# Altium schematic symbol library Microver.SchLib: 988 symbols (part 16 of 17)
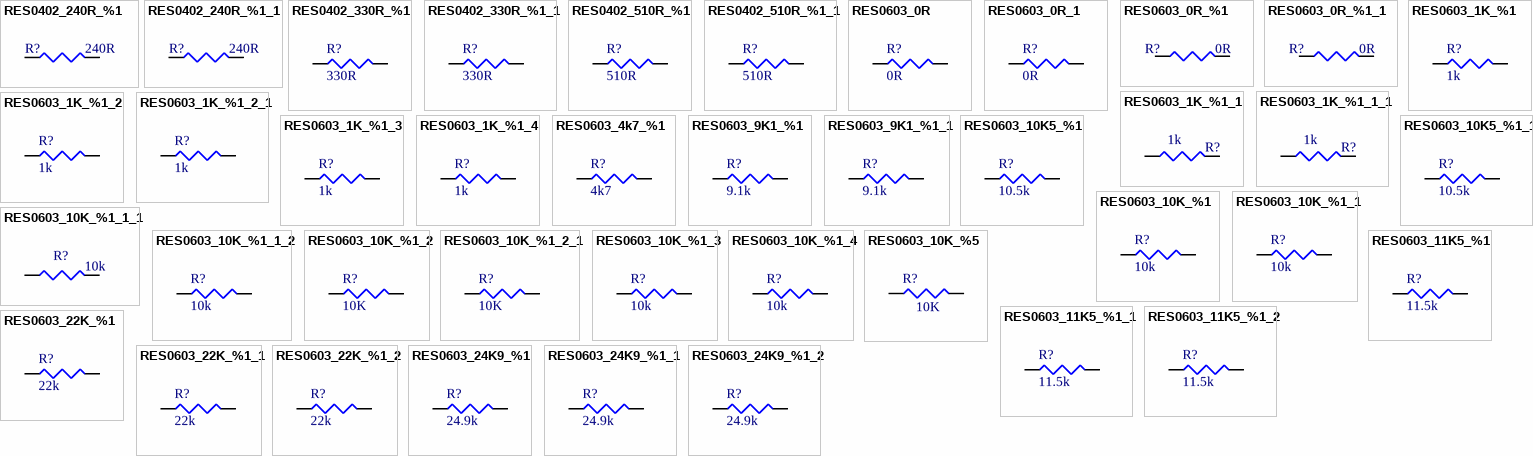
[diagram p44: symbols RES0402_240R_%1 to RES0603_24K9_%1_2]

## RES0603_10K_%1_3
designator R?, comment value 10k  (hidden comment: RES 10K OHM 1% 1/10W 0603)
10 kOhms ±1% 0.1W, 1/10W Chip Resistor 0603 (1608 Metric) Moisture Resistant Thick Film; Manufacturer Part Number: RC0603FR-0710KL; Order Code: Digi: 311-10.0KHRTR-ND; Sirius Stock Code: *; LCSC Part Number: C98220; LCSC Manufacturer Part Number: RC0603FR-0710KL
footprint SMR0603
pins: 1, 2

## RES0603_10K_%1_4
designator R?, comment value 10k  (hidden comment: RES 10K OHM 1% 1/10W 0603)
10 kOhms ±1% 0.1W, 1/10W Chip Resistor 0603 (1608 Metric) Moisture Resistant Thick Film; Manufacturer Part Number: RC0603FR-0710KL; Order Code: Digi: 311-10.0KHRTR-ND; Sirius Stock Code: *; LCSC Part Number: C98220; LCSC Manufacturer Part Number: RC0603FR-0710KL
footprint SMR0603
pins: 1, 2

## RES0603_10K_%5
designator R?, comment value 10K  (hidden comment: RES 10K OHM 5% 1/10W 0603)
10 kOhms ±5% 0.1W, 1/10W Chip Resistor 0603 (1608 Metric) Automotive AEC-Q200 Thick Film; Manufacturer Part Number: RMCF0603JT10K0; Sirius Stock Code: S182-00010KDJD
footprint RES0603 (RESISTOR 0603)
pins: 1, 2

## RES0603_11K5_%1
designator R?, comment value 11.5k  (hidden comment: RES 11.5K OHM 1% 1/10W 0603)
±1% 11.5kΩ 0603 Chip Resistor - Surface Mount ROHS; Manufacturer Part Number: SCR0603F11K5; Order Code: LCSC: C3016130; Sirius Stock Code: *; LCSC Part Number: C3016130; LCSC Manufacturer Part Number: SCR0603F11K5
footprint SMR0603
pins: 1, 2

## RES0603_11K5_%1_1
designator R?, comment value 11.5k  (hidden comment: RES 11.5K OHM 1% 1/10W 0603)
±1% 11.5kΩ 0603 Chip Resistor - Surface Mount ROHS; Manufacturer Part Number: SCR0603F11K5; Order Code: LCSC: C3016130; Sirius Stock Code: *; LCSC Part Number: C3016130; LCSC Manufacturer Part Number: SCR0603F11K5
footprint SMR0603
pins: 1, 2

## RES0603_11K5_%1_2
designator R?, comment value 11.5k  (hidden comment: RES 11.5K OHM 1% 1/10W 0603)
±1% 11.5kΩ 0603 Chip Resistor - Surface Mount ROHS; Manufacturer Part Number: SCR0603F11K5; Order Code: LCSC: C3016130; Sirius Stock Code: *; LCSC Part Number: C3016130; LCSC Manufacturer Part Number: SCR0603F11K5
footprint SMR0603
pins: 1, 2

## RES0603_22K_%1
designator R?, comment value 22k  (hidden comment: RES 22K OHM 1% 1/10W 0603)
22 kOhms ±1% 0.1W, 1/10W Chip Resistor 0603 (1608 Metric) Moisture Resistant Thick Film; Manufacturer Part Number: RC0603FR-0722KL; Order Code: Digi: 311-22.0KHRTR-ND; Sirius Stock Code: *; LCSC Part Number: C114065; LCSC Manufacturer Part Number: RC0603FR-0722KL
footprint SMR0603
pins: 1, 2

## RES0603_22K_%1_1
designator R?, comment value 22k  (hidden comment: RES 22K OHM 1% 1/10W 0603)
22 kOhms ±1% 0.1W, 1/10W Chip Resistor 0603 (1608 Metric) Moisture Resistant Thick Film; Manufacturer Part Number: RC0603FR-0722KL; Order Code: Digi: 311-22.0KHRTR-ND; Sirius Stock Code: *; LCSC Part Number: C114065; LCSC Manufacturer Part Number: RC0603FR-0722KL
footprint SMR0603
pins: 1, 2

## RES0603_22K_%1_2
designator R?, comment value 22k  (hidden comment: RES 22K OHM 1% 1/10W 0603)
22 kOhms ±1% 0.1W, 1/10W Chip Resistor 0603 (1608 Metric) Moisture Resistant Thick Film; Manufacturer Part Number: RC0603FR-0722KL; Order Code: Digi: 311-22.0KHRTR-ND; Sirius Stock Code: *; LCSC Part Number: C114065; LCSC Manufacturer Part Number: RC0603FR-0722KL
footprint SMR0603
pins: 1, 2

## RES0603_24K9_%1
designator R?, comment value 24.9k  (hidden comment: RES 24.9K OHM 1% 1/10W 0603)
24.9 kOhms ±1% 0.1W, 1/10W Chip Resistor 0603 (1608 Metric) Moisture Resistant Thick Film; Manufacturer Part Number: RC0603FR-0724K9L; Order Code: Digi: 311-24.9KHRTR-ND; Sirius Stock Code: *; LCSC Part Number: C137761; LCSC Manufacturer Part Number: RC0603FR-0724K9L
footprint SMR0603
pins: 1, 2

## RES0603_24K9_%1_1
designator R?, comment value 24.9k  (hidden comment: RES 24.9K OHM 1% 1/10W 0603)
24.9 kOhms ±1% 0.1W, 1/10W Chip Resistor 0603 (1608 Metric) Moisture Resistant Thick Film; Manufacturer Part Number: RC0603FR-0724K9L; Order Code: Digi: 311-24.9KHRTR-ND; Sirius Stock Code: *; LCSC Part Number: C137761; LCSC Manufacturer Part Number: RC0603FR-0724K9L
footprint SMR0603
pins: 1, 2

## RES0603_24K9_%1_2
designator R?, comment value 24.9k  (hidden comment: RES 24.9K OHM 1% 1/10W 0603)
24.9 kOhms ±1% 0.1W, 1/10W Chip Resistor 0603 (1608 Metric) Moisture Resistant Thick Film; Manufacturer Part Number: RC0603FR-0724K9L; Order Code: Digi: 311-24.9KHRTR-ND; Sirius Stock Code: *; LCSC Part Number: C137761; LCSC Manufacturer Part Number: RC0603FR-0724K9L
footprint SMR0603
pins: 1, 2

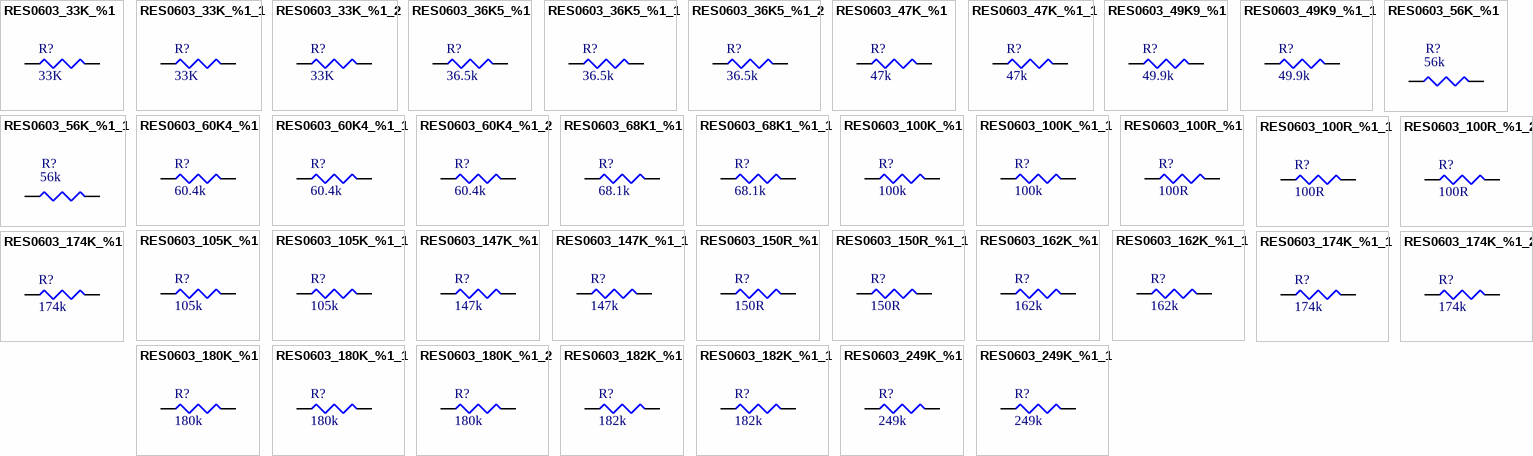
[diagram p25: symbols RES0603_33K_%1 to RES0603_249K_%1_1]

## RES0603_33K_%1
designator R?, comment value 33K  (hidden comment: RES 33K OHM 1% 1/10W 0603)
33 kOhms ±1% 0.1W, 1/10W Chip Resistor 0603 (1608 Metric) Moisture Resistant Thick Film; Manufacturer Part Number: RC0603FR-0733KL; Order Code: Digi: 311-33.0KHRTR-ND; Sirius Stock Code: *; LCSC Manufacturer Part Number: RC0603FR-0733KL; LCSC Part Number: C126359
footprint SMR0603
pins: 1, 2

## RES0603_33K_%1_1
designator R?, comment value 33K  (hidden comment: RES 33K OHM 1% 1/10W 0603)
33 kOhms ±1% 0.1W, 1/10W Chip Resistor 0603 (1608 Metric) Moisture Resistant Thick Film; Manufacturer Part Number: RC0603FR-0733KL; Order Code: Digi: 311-33.0KHRTR-ND; Sirius Stock Code: *; LCSC Manufacturer Part Number: RC0603FR-0733KL; LCSC Part Number: C126359
footprint SMR0603
pins: 1, 2

## RES0603_33K_%1_2
designator R?, comment value 33K  (hidden comment: RES 33K OHM 1% 1/10W 0603)
33 kOhms ±1% 0.1W, 1/10W Chip Resistor 0603 (1608 Metric) Moisture Resistant Thick Film; Manufacturer Part Number: RC0603FR-0733KL; Order Code: Digi: 311-33.0KHRTR-ND; Sirius Stock Code: *; LCSC Manufacturer Part Number: RC0603FR-0733KL; LCSC Part Number: C126359
footprint SMR0603
pins: 1, 2

## RES0603_36K5_%1
designator R?, comment value 36.5k  (hidden comment: RES 36.5K OHM 1% 1/10W 0603)
100mW 36.5kΩ Thick Film Resistors ±1% 0603 Chip Resistor - Surface Mount ROHS; Manufacturer Part Number: 0603WAF3652T5E; Order Code: LCSC: C23029; Sirius Stock Code: *; LCSC Part Number: C23029; LCSC Manufacturer Part Number: 0603WAF3652T5E
footprint SMR0603
pins: 1, 2

## RES0603_36K5_%1_1
designator R?, comment value 36.5k  (hidden comment: RES 36.5K OHM 1% 1/10W 0603)
100mW 36.5kΩ Thick Film Resistors ±1% 0603 Chip Resistor - Surface Mount ROHS; Manufacturer Part Number: 0603WAF3652T5E; Order Code: LCSC: C23029; Sirius Stock Code: *; LCSC Part Number: C23029; LCSC Manufacturer Part Number: 0603WAF3652T5E
footprint SMR0603
pins: 1, 2

## RES0603_36K5_%1_2
designator R?, comment value 36.5k  (hidden comment: RES 36.5K OHM 1% 1/10W 0603)
100mW 36.5kΩ Thick Film Resistors ±1% 0603 Chip Resistor - Surface Mount ROHS; Manufacturer Part Number: 0603WAF3652T5E; Order Code: LCSC: C23029; Sirius Stock Code: *; LCSC Part Number: C23029; LCSC Manufacturer Part Number: 0603WAF3652T5E
footprint SMR0603
pins: 1, 2

## RES0603_47K_%1
designator R?, comment value 47k  (hidden comment: RES SMD 47K OHM 1% 1/10W 0603)
47 kOhms ±1% 0.1W, 1/10W Chip Resistor 0603 (1608 Metric) Thin Film; Manufacturer Part Number: RT0603FRE0747KL; Order Code: Digi: YAG3355TR-ND; Sirius Stock Code: *; LCSC Manufacturer Part Number: RT0603FRE0747KL; LCSC Part Number: C375512
footprint RES0603 (RESISTOR 0603)
pins: 1, 2

## RES0603_47K_%1_1
designator R?, comment value 47k  (hidden comment: RES SMD 47K OHM 1% 1/10W 0603)
47 kOhms ±1% 0.1W, 1/10W Chip Resistor 0603 (1608 Metric) Thin Film; Manufacturer Part Number: RT0603FRE0747KL; Order Code: Digi: YAG3355TR-ND; Sirius Stock Code: *; LCSC Manufacturer Part Number: RT0603FRE0747KL; LCSC Part Number: C375512
footprint RES0603 (RESISTOR 0603)
pins: 1, 2

## RES0603_49K9_%1
designator R?, comment value 49.9k  (hidden comment: RES 49K9 OHM 1% 1/10W 0603)
49.9kΩ 100mW Thick Film Resistors ±1% 0603 Chip Resistor - Surface Mount ROHS; Manufacturer Part Number: 0603WAF4992T5E; Order Code: LCSC: C23184; Sirius Stock Code: *; LCSC Part Number: C23184; LCSC Manufacturer Part Number: 0603WAF4992T5E
footprint SMR0603
pins: 1, 2

## RES0603_49K9_%1_1
designator R?, comment value 49.9k  (hidden comment: RES 49K9 OHM 1% 1/10W 0603)
49.9kΩ 100mW Thick Film Resistors ±1% 0603 Chip Resistor - Surface Mount ROHS; Manufacturer Part Number: 0603WAF4992T5E; Order Code: LCSC: C23184; Sirius Stock Code: *; LCSC Part Number: C23184; LCSC Manufacturer Part Number: 0603WAF4992T5E
footprint SMR0603
pins: 1, 2

## RES0603_56K_%1
designator R?, comment value 56k  (hidden comment: RES 56K OHM 1% 1/10W 0603)
56 kOhms ±1% 0.1W, 1/10W Chip Resistor 0603 (1608 Metric) Moisture Resistant Thick Film; Manufacturer Part Number: RC0603FR-0756KL; Order Code: Digi: 311-56KHRTR-ND; Sirius Stock Code: *; LCSC Part Number: C114630; LCSC Manufacturer Part Number: RC0603FR-0756KL
footprint SMR0603
pins: 1, 2

## RES0603_56K_%1_1
designator R?, comment value 56k  (hidden comment: RES 56K OHM 1% 1/10W 0603)
56 kOhms ±1% 0.1W, 1/10W Chip Resistor 0603 (1608 Metric) Moisture Resistant Thick Film; Manufacturer Part Number: RC0603FR-0756KL; Order Code: Digi: 311-56KHRTR-ND; Sirius Stock Code: *; LCSC Part Number: C114630; LCSC Manufacturer Part Number: RC0603FR-0756KL
footprint SMR0603
pins: 1, 2

## RES0603_60K4_%1
designator R?, comment value 60.4k  (hidden comment: RES 60.4K OHM 1% 1/10W 0603)
60.4 kOhms ±1% 0.1W, 1/10W Chip Resistor 0603 (1608 Metric) Moisture Resistant Thick Film; Manufacturer Part Number: RC0603FR-0760K4L; Order Code: Digi: 311-60.4KHRTR-ND; Sirius Stock Code: *; LCSC Part Number: C165742; LCSC Manufacturer Part Number: RC0603FR-0760K4L
footprint SMR0603
pins: 1, 2

## RES0603_60K4_%1_1
designator R?, comment value 60.4k  (hidden comment: RES 60.4K OHM 1% 1/10W 0603)
60.4 kOhms ±1% 0.1W, 1/10W Chip Resistor 0603 (1608 Metric) Moisture Resistant Thick Film; Manufacturer Part Number: RC0603FR-0760K4L; Order Code: Digi: 311-60.4KHRTR-ND; Sirius Stock Code: *; LCSC Part Number: C165742; LCSC Manufacturer Part Number: RC0603FR-0760K4L
footprint SMR0603
pins: 1, 2

## RES0603_60K4_%1_2
designator R?, comment value 60.4k  (hidden comment: RES 60.4K OHM 1% 1/10W 0603)
60.4 kOhms ±1% 0.1W, 1/10W Chip Resistor 0603 (1608 Metric) Moisture Resistant Thick Film; Manufacturer Part Number: RC0603FR-0760K4L; Order Code: Digi: 311-60.4KHRTR-ND; Sirius Stock Code: *; LCSC Part Number: C165742; LCSC Manufacturer Part Number: RC0603FR-0760K4L
footprint SMR0603
pins: 1, 2

## RES0603_68K1_%1
designator R?, comment value 68.1k  (hidden comment: RES 68.1K OHM 1% 1/10W 0603)
68.1kΩ 100mW Thick Film Resistors ±1% 0603 Chip Resistor - Surface Mount ROHS; Manufacturer Part Number: 0603WAF6812T5E; Order Code: LCSC: C25976; Sirius Stock Code: *; LCSC Part Number: C25976; LCSC Manufacturer Part Number: 0603WAF6812T5E
footprint SMR0603
pins: 1, 2

## RES0603_68K1_%1_1
designator R?, comment value 68.1k  (hidden comment: RES 68.1K OHM 1% 1/10W 0603)
68.1kΩ 100mW Thick Film Resistors ±1% 0603 Chip Resistor - Surface Mount ROHS; Manufacturer Part Number: 0603WAF6812T5E; Order Code: LCSC: C25976; Sirius Stock Code: *; LCSC Part Number: C25976; LCSC Manufacturer Part Number: 0603WAF6812T5E
footprint SMR0603
pins: 1, 2

## RES0603_100K_%1
designator R?, comment value 100k  (hidden comment: RES 180K OHM 1% 1/10W 0603)
100 kOhms ±1% 0.1W, 1/10W Chip Resistor 0603 (1608 Metric) Moisture Resistant Thick Film; Manufacturer Part Number: RC0603FR-07100KL; Order Code: DIGI : 311-100KHRTR-ND; LCSC Manufacturer Part Number: RC0603FR-07100KL; LCSC Part Number: C123419
footprint SMR0603
pins: 1, 2

## RES0603_100K_%1_1
designator R?, comment value 100k  (hidden comment: RES 180K OHM 1% 1/10W 0603)
100 kOhms ±1% 0.1W, 1/10W Chip Resistor 0603 (1608 Metric) Moisture Resistant Thick Film; Manufacturer Part Number: RC0603FR-07100KL; Order Code: DIGI : 311-100KHRTR-ND; LCSC Manufacturer Part Number: RC0603FR-07100KL; LCSC Part Number: C123419
footprint SMR0603
pins: 1, 2

## RES0603_100R_%1
designator R?, comment value 100R  (hidden comment: RES 100 OHM 1% 1/10W 0603)
100 Ohms ±1% 0.1W, 1/10W Chip Resistor 0603 (1608 Metric) Moisture Resistant Thick Film; Manufacturer Part Number: RC0603FR-07100RL; Order Code: Digi: 311-100HRTR-ND; Sirius Stock Code: *; LCSC Part Number: C105588; LCSC Manufacturer Part Number: RC0603FR-07100RL
footprint SMR0603
pins: 1, 2

## RES0603_100R_%1_1
designator R?, comment value 100R  (hidden comment: RES 100 OHM 1% 1/10W 0603)
100 Ohms ±1% 0.1W, 1/10W Chip Resistor 0603 (1608 Metric) Moisture Resistant Thick Film; Manufacturer Part Number: RC0603FR-07100RL; Order Code: Digi: 311-100HRTR-ND; Sirius Stock Code: *; LCSC Part Number: C105588; LCSC Manufacturer Part Number: RC0603FR-07100RL
footprint SMR0603
pins: 1, 2

## RES0603_100R_%1_2
designator R?, comment value 100R  (hidden comment: RES 100 OHM 1% 1/10W 0603)
100 Ohms ±1% 0.1W, 1/10W Chip Resistor 0603 (1608 Metric) Moisture Resistant Thick Film; Manufacturer Part Number: RC0603FR-07100RL; Order Code: Digi: 311-100HRTR-ND; Sirius Stock Code: *; LCSC Part Number: C105588; LCSC Manufacturer Part Number: RC0603FR-07100RL
footprint SMR0603
pins: 1, 2

## RES0603_105K_%1
designator R?, comment value 105k  (hidden comment: RES 105K OHM 1% 1/10W 0603)
100mW Thick Film Resistors ±1% 105kΩ 0603 Chip Resistor - Surface Mount ROHS; Manufacturer Part Number: FRC0603F1053TS; Order Code: LCSC: C2933128; Sirius Stock Code: *; LCSC Part Number: C2933128; LCSC Manufacturer Part Number: FRC0603F1053TS
footprint SMR0603
pins: 1, 2

## RES0603_105K_%1_1
designator R?, comment value 105k  (hidden comment: RES 105K OHM 1% 1/10W 0603)
100mW Thick Film Resistors ±1% 105kΩ 0603 Chip Resistor - Surface Mount ROHS; Manufacturer Part Number: FRC0603F1053TS; Order Code: LCSC: C2933128; Sirius Stock Code: *; LCSC Part Number: C2933128; LCSC Manufacturer Part Number: FRC0603F1053TS
footprint SMR0603
pins: 1, 2

## RES0603_147K_%1
designator R?, comment value 147k  (hidden comment: RES 147K OHM 1% 1/10W 0603)
147kΩ 100mW Thick Film Resistors ±1% 0603 Chip Resistor - Surface Mount ROHS; Manufacturer Part Number: FRC0603F1473TS; Order Code: LCSC: C2998060; Sirius Stock Code: *; LCSC Part Number: C2998060; LCSC Manufacturer Part Number: FRC0603F1473TS
footprint SMR0603
pins: 1, 2

## RES0603_147K_%1_1
designator R?, comment value 147k  (hidden comment: RES 147K OHM 1% 1/10W 0603)
147kΩ 100mW Thick Film Resistors ±1% 0603 Chip Resistor - Surface Mount ROHS; Manufacturer Part Number: FRC0603F1473TS; Order Code: LCSC: C2998060; Sirius Stock Code: *; LCSC Part Number: C2998060; LCSC Manufacturer Part Number: FRC0603F1473TS
footprint SMR0603
pins: 1, 2

## RES0603_150R_%1
designator R?, comment value 150R  (hidden comment: RES 150 OHM 1% 1/10W 0603)
150 Ohms ±1% 0.1W, 1/10W Chip Resistor 0603 (1608 Metric) Moisture Resistant Thick Film; Manufacturer Part Number: RC0603FR-07150RL; Order Code: Digi: 311-150HRTR-ND; Sirius Stock Code: *; LCSC Part Number: C114608; LCSC Manufacturer Part Number: RC0603FR-07150RL
footprint SMR0603
pins: 1, 2

## RES0603_150R_%1_1
designator R?, comment value 150R  (hidden comment: RES 150 OHM 1% 1/10W 0603)
150 Ohms ±1% 0.1W, 1/10W Chip Resistor 0603 (1608 Metric) Moisture Resistant Thick Film; Manufacturer Part Number: RC0603FR-07150RL; Order Code: Digi: 311-150HRTR-ND; Sirius Stock Code: *; LCSC Part Number: C114608; LCSC Manufacturer Part Number: RC0603FR-07150RL
footprint SMR0603
pins: 1, 2

## RES0603_162K_%1
designator R?, comment value 162k  (hidden comment: RES 820K OHM 1% 1/10W 0603)
820 kOhms ±1% 0.1W, 1/10W Chip Resistor 0603 (1608 Metric) Moisture Resistant Thick Film; Manufacturer Part Number: FRC0603F1623TS; Order Code: LCSC: C2998114; Sirius Stock Code: *; LCSC Part Number: C2998114; LCSC Manufacturer Part Number: FRC0603F1623TS
footprint SMR0603
pins: 1, 2

## RES0603_162K_%1_1
designator R?, comment value 162k  (hidden comment: RES 820K OHM 1% 1/10W 0603)
820 kOhms ±1% 0.1W, 1/10W Chip Resistor 0603 (1608 Metric) Moisture Resistant Thick Film; Manufacturer Part Number: FRC0603F1623TS; Order Code: LCSC: C2998114; Sirius Stock Code: *; LCSC Part Number: C2998114; LCSC Manufacturer Part Number: FRC0603F1623TS
footprint SMR0603
pins: 1, 2

## RES0603_174K_%1
designator R?, comment value 174k  (hidden comment: RES 174K OHM 1% 1/10W 0603)
100mW Thick Film Resistors ±1% 174kΩ 0603 Chip Resistor - Surface Mount ROHS; Manufacturer Part Number: FRC0603F1743TS; Order Code: LCSC: C2933159; Sirius Stock Code: *; LCSC Part Number: C2933159; LCSC Manufacturer Part Number: FRC0603F1743TS
footprint SMR0603
pins: 1, 2

## RES0603_174K_%1_1
designator R?, comment value 174k  (hidden comment: RES 174K OHM 1% 1/10W 0603)
100mW Thick Film Resistors ±1% 174kΩ 0603 Chip Resistor - Surface Mount ROHS; Manufacturer Part Number: FRC0603F1743TS; Order Code: LCSC: C2933159; Sirius Stock Code: *; LCSC Part Number: C2933159; LCSC Manufacturer Part Number: FRC0603F1743TS
footprint SMR0603
pins: 1, 2

## RES0603_174K_%1_2
designator R?, comment value 174k  (hidden comment: RES 174K OHM 1% 1/10W 0603)
100mW Thick Film Resistors ±1% 174kΩ 0603 Chip Resistor - Surface Mount ROHS; Manufacturer Part Number: FRC0603F1743TS; Order Code: LCSC: C2933159; Sirius Stock Code: *; LCSC Part Number: C2933159; LCSC Manufacturer Part Number: FRC0603F1743TS
footprint SMR0603
pins: 1, 2

## RES0603_180K_%1
designator R?, comment value 180k  (hidden comment: RES 180K OHM 1% 1/10W 0603)
180 kOhms ±1% 0.1W, 1/10W Chip Resistor 0603 (1608 Metric) Moisture Resistant Thick Film; Manufacturer Part Number: RC0603FR-07180KL; Order Code: DIGI : 311-180KHRTR-ND; LCSC Manufacturer Part Number: RC0603FR-07180KL; LCSC Part Number: C123419
footprint SMR0603
pins: 1, 2

## RES0603_180K_%1_1
designator R?, comment value 180k  (hidden comment: RES 180K OHM 1% 1/10W 0603)
180 kOhms ±1% 0.1W, 1/10W Chip Resistor 0603 (1608 Metric) Moisture Resistant Thick Film; Manufacturer Part Number: RC0603FR-07180KL; Order Code: DIGI : 311-180KHRTR-ND; LCSC Manufacturer Part Number: RC0603FR-07180KL; LCSC Part Number: C123419
footprint SMR0603
pins: 1, 2

## RES0603_180K_%1_2
designator R?, comment value 180k  (hidden comment: RES 180K OHM 1% 1/10W 0603)
180 kOhms ±1% 0.1W, 1/10W Chip Resistor 0603 (1608 Metric) Moisture Resistant Thick Film; Manufacturer Part Number: RC0603FR-07180KL; Order Code: DIGI : 311-180KHRTR-ND; LCSC Manufacturer Part Number: RC0603FR-07180KL; LCSC Part Number: C123419
footprint SMR0603
pins: 1, 2

## RES0603_182K_%1
designator R?, comment value 182k  (hidden comment: RES 182K OHM 1% 1/10W 0603)
182 kOhms ±1% 0.1W, 1/10W Chip Resistor 0603 (1608 Metric) Moisture Resistant Thick Film; Manufacturer Part Number: RC0603FR-07182KL; Order Code: Digi: 311-182KHRTR-ND; Sirius Stock Code: *; LCSC Part Number: C163428; LCSC Manufacturer Part Number: RC0603FR-07182KL
footprint SMR0603
pins: 1, 2

## RES0603_182K_%1_1
designator R?, comment value 182k  (hidden comment: RES 182K OHM 1% 1/10W 0603)
182 kOhms ±1% 0.1W, 1/10W Chip Resistor 0603 (1608 Metric) Moisture Resistant Thick Film; Manufacturer Part Number: RC0603FR-07182KL; Order Code: Digi: 311-182KHRTR-ND; Sirius Stock Code: *; LCSC Part Number: C163428; LCSC Manufacturer Part Number: RC0603FR-07182KL
footprint SMR0603
pins: 1, 2

## RES0603_249K_%1
designator R?, comment value 249k  (hidden comment: RES 249K OHM 1% 1/10W 0603)
249 kOhms ±1% 0.1W, 1/10W Chip Resistor 0603 (1608 Metric) Moisture Resistant Thick Film; Manufacturer Part Number: RC0603FR-07249KL; Order Code: Digi: 311-249KHRTR-ND; Sirius Stock Code: *; LCSC Part Number: C137763; LCSC Manufacturer Part Number: RC0603FR-07249KL
footprint SMR0603
pins: 1, 2

## RES0603_249K_%1_1
designator R?, comment value 249k  (hidden comment: RES 249K OHM 1% 1/10W 0603)
249 kOhms ±1% 0.1W, 1/10W Chip Resistor 0603 (1608 Metric) Moisture Resistant Thick Film; Manufacturer Part Number: RC0603FR-07249KL; Order Code: Digi: 311-249KHRTR-ND; Sirius Stock Code: *; LCSC Part Number: C137763; LCSC Manufacturer Part Number: RC0603FR-07249KL
footprint SMR0603
pins: 1, 2

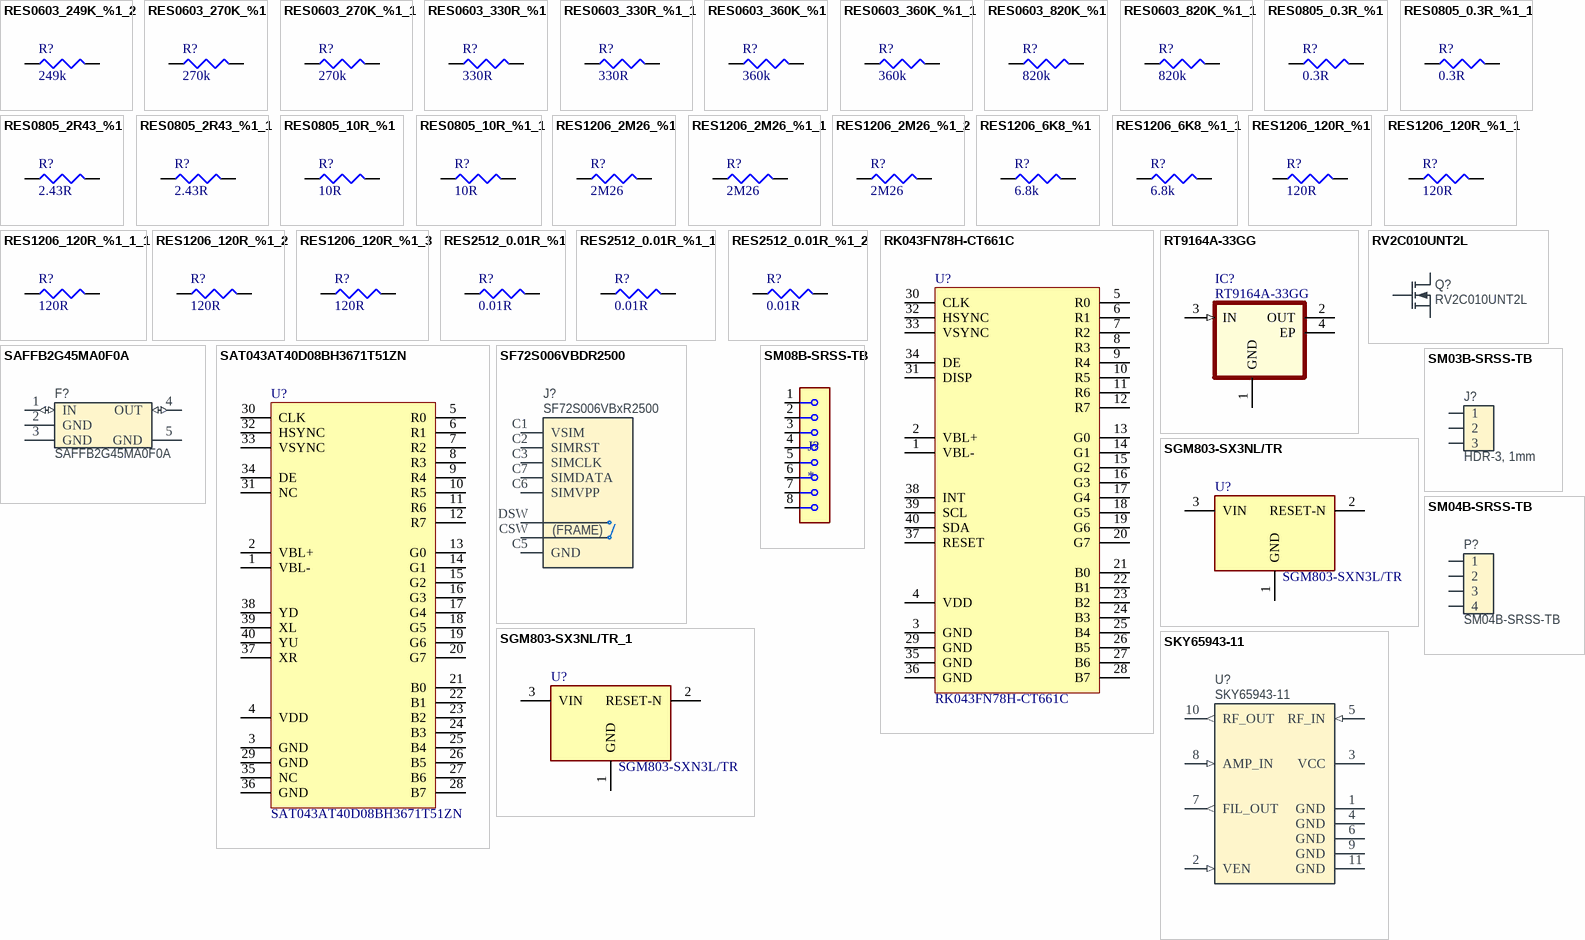
[diagram p26: symbols RES0603_249K_%1_2 to SM08B-SRSS-TB]

## RES0603_249K_%1_2
designator R?, comment value 249k  (hidden comment: RES 249K OHM 1% 1/10W 0603)
249 kOhms ±1% 0.1W, 1/10W Chip Resistor 0603 (1608 Metric) Moisture Resistant Thick Film; Manufacturer Part Number: RC0603FR-07249KL; Order Code: Digi: 311-249KHRTR-ND; Sirius Stock Code: *; LCSC Part Number: C137763; LCSC Manufacturer Part Number: RC0603FR-07249KL
footprint SMR0603
pins: 1, 2

## RES0603_270K_%1
designator R?, comment value 270k  (hidden comment: RES 270K OHM 1% 1/10W 0603)
270 kOhms ±1% 0.1W, 1/10W Chip Resistor 0603 (1608 Metric) Moisture Resistant Thick Film; Manufacturer Part Number: RC0603FR-07270KL; Order Code: Digi: 311-270KHRTR-ND; Sirius Stock Code: *; LCSC Part Number: C137755; LCSC Manufacturer Part Number: RC0603FR-07270KL
footprint SMR0603
pins: 1, 2

## RES0603_270K_%1_1
designator R?, comment value 270k  (hidden comment: RES 270K OHM 1% 1/10W 0603)
270 kOhms ±1% 0.1W, 1/10W Chip Resistor 0603 (1608 Metric) Moisture Resistant Thick Film; Manufacturer Part Number: RC0603FR-07270KL; Order Code: Digi: 311-270KHRTR-ND; Sirius Stock Code: *; LCSC Part Number: C137755; LCSC Manufacturer Part Number: RC0603FR-07270KL
footprint SMR0603
pins: 1, 2

## RES0603_330R_%1
designator R?, comment value 330R  (hidden comment: RES 330 OHM 1% 1/10W 0603)
330 Ohms ±1% 0.1W, 1/10W Chip Resistor 0603 (1608 Metric) Automotive AEC-Q200 Thick Film; Manufacturer Part Number: RMCF0603FT330R; LCSC Manufacturer Part Number: SCR0603F330R; Order Code: Digi: RMCF0603FT330RTR-ND; Sirius Stock Code: *; LCSC Part Number: C3016255
footprint RES0603 (RESISTOR 0603)
pins: 1, 2

## RES0603_330R_%1_1
designator R?, comment value 330R  (hidden comment: RES 330 OHM 1% 1/10W 0603)
330 Ohms ±1% 0.1W, 1/10W Chip Resistor 0603 (1608 Metric) Automotive AEC-Q200 Thick Film; Manufacturer Part Number: RMCF0603FT330R; LCSC Manufacturer Part Number: SCR0603F330R; Order Code: Digi: RMCF0603FT330RTR-ND; Sirius Stock Code: *; LCSC Part Number: C3016255
footprint RES0603 (RESISTOR 0603)
pins: 1, 2

## RES0603_360K_%1
designator R?, comment value 360k  (hidden comment: RES 270K OHM 1% 1/10W 0603)
360 kOhms ±1% 0.1W, 1/10W Chip Resistor 0603 (1608 Metric) Moisture Resistant Thick Film; Manufacturer Part Number: RC0603FR-07360KL; Order Code: Digi: 311-360KHRTR-ND; Sirius Stock Code: *; LCSC Part Number: C137740; LCSC Manufacturer Part Number: RC0603FR-07360KL
footprint SMR0603
pins: 1, 2

## RES0603_360K_%1_1
designator R?, comment value 360k  (hidden comment: RES 270K OHM 1% 1/10W 0603)
360 kOhms ±1% 0.1W, 1/10W Chip Resistor 0603 (1608 Metric) Moisture Resistant Thick Film; Manufacturer Part Number: RC0603FR-07360KL; Order Code: Digi: 311-360KHRTR-ND; Sirius Stock Code: *; LCSC Part Number: C137740; LCSC Manufacturer Part Number: RC0603FR-07360KL
footprint SMR0603
pins: 1, 2

## RES0603_820K_%1
designator R?, comment value 820k  (hidden comment: RES 820K OHM 1% 1/10W 0603)
820 kOhms ±1% 0.1W, 1/10W Chip Resistor 0603 (1608 Metric) Moisture Resistant Thick Film; Manufacturer Part Number: RC0603FR-07820KL; Order Code: Digi: 311-820KHRTR-ND; Sirius Stock Code: *; LCSC Part Number: C141684; LCSC Manufacturer Part Number: RC0603FR-07820KL
footprint SMR0603
pins: 1, 2

## RES0603_820K_%1_1
designator R?, comment value 820k  (hidden comment: RES 820K OHM 1% 1/10W 0603)
820 kOhms ±1% 0.1W, 1/10W Chip Resistor 0603 (1608 Metric) Moisture Resistant Thick Film; Manufacturer Part Number: RC0603FR-07820KL; Order Code: Digi: 311-820KHRTR-ND; Sirius Stock Code: *; LCSC Part Number: C141684; LCSC Manufacturer Part Number: RC0603FR-07820KL
footprint SMR0603
pins: 1, 2

## RES0805_0.3R_%1
designator R?, comment value 0.3R  (hidden comment: 125mW Thick Film Resistors ±1% 300mΩ 0805 Chip Resistor - Surface Mount ROHS)
Manufacturer Part Number: 0805W8F300LT5E; Order Code: LCSC: C247157; LCSC Manufacturer Part Number: 0805W8F300LT5E; LCSC Part Number: C247157
footprint SMR0805
pins: 1, 2

## RES0805_0.3R_%1_1
designator R?, comment value 0.3R  (hidden comment: 125mW Thick Film Resistors ±1% 300mΩ 0805 Chip Resistor - Surface Mount ROHS)
Manufacturer Part Number: 0805W8F300LT5E; Order Code: LCSC: C247157; LCSC Manufacturer Part Number: 0805W8F300LT5E; LCSC Part Number: C247157
footprint SMR0805
pins: 1, 2

## RES0805_2R43_%1
designator R?, comment value 2.43R  (hidden comment: 125mW Thick Film Resistors ±1% 2.43Ω 0805 Chip Resistor - Surface Mount ROHS)
Manufacturer Part Number: FRC0805F2R43TS; Order Code: LCSC: C2933405; LCSC Manufacturer Part Number: FRC0805F2R43TS; LCSC Part Number: C2933405
footprint SMR0805
pins: 1, 2

## RES0805_2R43_%1_1
designator R?, comment value 2.43R  (hidden comment: 125mW Thick Film Resistors ±1% 2.43Ω 0805 Chip Resistor - Surface Mount ROHS)
Manufacturer Part Number: FRC0805F2R43TS; Order Code: LCSC: C2933405; LCSC Manufacturer Part Number: FRC0805F2R43TS; LCSC Part Number: C2933405
footprint SMR0805
pins: 1, 2

## RES0805_10R_%1
designator R?, comment value 10R  (hidden comment: 125mW Thick Film Resistors ±1% 10Ω 0805 Chip Resistor - Surface Mount ROHS)
Manufacturer Part Number: 0805W8F100JT5E; Order Code: LCSC: C17415; LCSC Manufacturer Part Number: 0805W8F100JT5E; LCSC Part Number: C17415
footprint SMR0805
pins: 1, 2

## RES0805_10R_%1_1
designator R?, comment value 10R  (hidden comment: 125mW Thick Film Resistors ±1% 10Ω 0805 Chip Resistor - Surface Mount ROHS)
Manufacturer Part Number: 0805W8F100JT5E; Order Code: LCSC: C17415; LCSC Manufacturer Part Number: 0805W8F100JT5E; LCSC Part Number: C17415
footprint SMR0805
pins: 1, 2

## RES1206_2M26_%1
designator R?, comment value 2M26  (hidden comment: RES 2.26M OHM 1% 1/4W 1206)
2.26 MOhms ±1% 0.25W, 1/4W Chip Resistor 1206 (3216 Metric) Moisture Resistant Thick Film; Manufacturer Part Number: RC1206FR-072M26L; Order Code: Digi: 311-2.26MFRTR-ND; LCSC Part Number: C488699; LCSC Manufacturer Part Number: RC1206FR-072M26L
footprint RES1206 (RESISTOR 1206)
pins: 1, 2

## RES1206_2M26_%1_1
designator R?, comment value 2M26  (hidden comment: RES 2.26M OHM 1% 1/4W 1206)
2.26 MOhms ±1% 0.25W, 1/4W Chip Resistor 1206 (3216 Metric) Moisture Resistant Thick Film; Manufacturer Part Number: RC1206FR-072M26L; Order Code: Digi: 311-2.26MFRTR-ND; LCSC Part Number: C488699; LCSC Manufacturer Part Number: RC1206FR-072M26L
footprint RES1206 (RESISTOR 1206)
pins: 1, 2

## RES1206_2M26_%1_2
designator R?, comment value 2M26  (hidden comment: RES 2.26M OHM 1% 1/4W 1206)
2.26 MOhms ±1% 0.25W, 1/4W Chip Resistor 1206 (3216 Metric) Moisture Resistant Thick Film; Manufacturer Part Number: RC1206FR-072M26L; Order Code: Digi: 311-2.26MFRTR-ND; LCSC Part Number: C488699; LCSC Manufacturer Part Number: RC1206FR-072M26L
footprint RES1206 (RESISTOR 1206)
pins: 1, 2

## RES1206_6K8_%1
designator R?, comment value 6.8k  (hidden comment: RES 6.8K OHM 1% 1/4W 1206)
6.8 kOhms ±1% 0.25W, 1/4W Chip Resistor 1206 (3216 Metric) Moisture Resistant Thick Film; Manufacturer Part Number: RC1206FR-076K8L; Order Code: Digi: 311-6.80KFRTR-ND; Sirius Stock Code: *; LCSC Manufacturer Part Number: RC1206FR-076K8L; LCSC Part Number: C246053
footprint SMR1206
footprint RES1206
pins: 1, 2

## RES1206_6K8_%1_1
designator R?, comment value 6.8k  (hidden comment: RES 6.8K OHM 1% 1/4W 1206)
6.8 kOhms ±1% 0.25W, 1/4W Chip Resistor 1206 (3216 Metric) Moisture Resistant Thick Film; Manufacturer Part Number: RC1206FR-076K8L; Order Code: Digi: 311-6.80KFRTR-ND; Sirius Stock Code: *; LCSC Manufacturer Part Number: RC1206FR-076K8L; LCSC Part Number: C246053
footprint SMR1206
footprint RES1206
pins: 1, 2

## RES1206_120R_%1
designator R?, comment value 120R  (hidden comment: RES SMD 120 OHM 1% 1/4W 1206)
120 Ohms ±1% 0.25W, 1/4W Chip Resistor 1206 (3216 Metric) Automotive AEC-Q200, Moisture Resistant Thick Film; Manufacturer Part Number: AC1206FR-07120RL; Order Code: Digi: YAG3810TR-ND; Sirius Stock Code: *; LCSC Manufacturer Part Number: AC1206FR-07120RL; LCSC Part Number: C229293
footprint SMR1206
footprint RES1206
pins: 1, 2

## RES1206_120R_%1_1
designator R?, comment value 120R  (hidden comment: RES SMD 120 OHM 1% 1/4W 1206)
120 Ohms ±1% 0.25W, 1/4W Chip Resistor 1206 (3216 Metric) Automotive AEC-Q200, Moisture Resistant Thick Film; Manufacturer Part Number: AC1206FR-07120RL; Order Code: Digi: YAG3810TR-ND; Sirius Stock Code: *; LCSC Manufacturer Part Number: AC1206FR-07120RL; LCSC Part Number: C229293
footprint RES1206
pins: 1, 2

## RES1206_120R_%1_1_1
designator R?, comment value 120R  (hidden comment: RES SMD 120 OHM 1% 1/4W 1206)
120 Ohms ±1% 0.25W, 1/4W Chip Resistor 1206 (3216 Metric) Automotive AEC-Q200, Moisture Resistant Thick Film; Manufacturer Part Number: AC1206FR-07120RL; Order Code: Digi: YAG3810TR-ND; Sirius Stock Code: *; LCSC Manufacturer Part Number: AC1206FR-07120RL; LCSC Part Number: C229293
footprint RES1206
pins: 1, 2

## RES1206_120R_%1_2
designator R?, comment value 120R  (hidden comment: RES SMD 120 OHM 1% 1/4W 1206)
120 Ohms ±1% 0.25W, 1/4W Chip Resistor 1206 (3216 Metric) Automotive AEC-Q200, Moisture Resistant Thick Film; Manufacturer Part Number: AC1206FR-07120RL; Order Code: Digi: YAG3810TR-ND; Sirius Stock Code: *; LCSC Manufacturer Part Number: AC1206FR-07120RL; LCSC Part Number: C229293
footprint SMR1206
footprint RES1206
pins: 1, 2

## RES1206_120R_%1_3
designator R?, comment value 120R  (hidden comment: RES SMD 120 OHM 1% 1/4W 1206)
120 Ohms ±1% 0.25W, 1/4W Chip Resistor 1206 (3216 Metric) Automotive AEC-Q200, Moisture Resistant Thick Film; Manufacturer Part Number: AC1206FR-07120RL; Order Code: Digi: YAG3810TR-ND; Sirius Stock Code: *; LCSC Manufacturer Part Number: AC1206FR-07120RL; LCSC Part Number: C229293
footprint SMR1206
footprint RES1206
pins: 1, 2

## RES2512_0.01R_%1
designator R?, comment value 0.01R  (hidden comment: RES 0.01 OHM 1% 2W 2512)
10 mOhms ±1% 2W Chip Resistor 2512 (6432 Metric) Automotive AEC-Q200, Current Sense, Moisture Resistant Metal Foil; Manufacturer Part Number: PE2512FKE7W0R01L; Order Code: Digi: YAG2167TR-ND; Sirius Stock Code: *; LCSC Part Number: C875720; LCSC Manufacturer Part Number: PE2512FKE7W0R01L
footprint Bourns_CRE2512-R005-R009_MFG
pins: 1, 2

## RES2512_0.01R_%1_1
designator R?, comment value 0.01R  (hidden comment: RES 0.01 OHM 1% 2W 2512)
10 mOhms ±1% 2W Chip Resistor 2512 (6432 Metric) Automotive AEC-Q200, Current Sense, Moisture Resistant Metal Foil; Manufacturer Part Number: PE2512FKE7W0R01L; Order Code: Digi: YAG2167TR-ND; Sirius Stock Code: *; LCSC Part Number: C875720; LCSC Manufacturer Part Number: PE2512FKE7W0R01L
footprint Bourns_CRE2512-R005-R009_MFG
pins: 1, 2

## RES2512_0.01R_%1_2
designator R?, comment value 0.01R  (hidden comment: RES 0.01 OHM 1% 2W 2512)
10 mOhms ±1% 2W Chip Resistor 2512 (6432 Metric) Automotive AEC-Q200, Current Sense, Moisture Resistant Metal Foil; Manufacturer Part Number: PE2512FKE7W0R01L; Order Code: Digi: YAG2167TR-ND; Sirius Stock Code: *; LCSC Part Number: C875720; LCSC Manufacturer Part Number: PE2512FKE7W0R01L
footprint Bourns_CRE2512-R005-R009_MFG
pins: 1, 2

## RK043FN78H-CT661C
designator U?
LCD,  TFT, 4.3 inch, 480x272 pixels with LED Backlight and Capacitive touch panel, high luminance with 0.5mm pitch flat cable; Internal_Part_Number: MCD-02422; Part_Type: Display; Part_Preference: Recommended; Manufacturer: ROCKTECH; Manufacturer_Part_Number: RK043FN78HV-CT661C; Component_Country_Of_Origin: Unknown; ShowFields: YES; ID: 4528; Value: RK043FN78H-CT661C; Order_code_Digikey: N/A; Order_code_Farnell: N/A; Order_code_RS: N/A; Status: Released; ComponentLink1URL: http://tunmcdsvn.tun.st.com/Component_Documentation_Library/Trunk/Display/ROCKTECH_RK043FN78H-CT661C
footprint LCD_DRAWING_ROCKTEK_RK043FN78H-CT661C
footprint LCD_ROCKTEK_RK043FN48H-CT672B_40P_P080_FLEX-FOLDED
pins: 1 VBL-, 2 VBL+, 3 GND, 4 VDD, 5 R0, 6 R1, 7 R2, 8 R3, 9 R4, 10 R5, 11 R6, 12 R7, 13 G0, 14 G1, 15 G2, 16 G3, 17 G4, 18 G5, 19 G6, 20 G7, 21 B0, 22 B1, 23 B2, 24 B3, 25 B4, 26 B5, 27 B6, 28 B7, 29 GND, 30 CLK, 31 DISP, 32 HSYNC, 33 VSYNC, 34 DE, 35 GND, 36 GND, 37 RESET, 38 INT, 39 SCL, 40 SDA

## RT9164A-33GG
designator IC?
IC REG LINEAR 3.3V 1A SOT223; Manufacturer: Richtek; Dropout Voltage: 1.3V; Min Input Voltage: 3V; Max Input Voltage: 14V; Number of Regulators: 1; Supplier 1: Digi-Key; Supplier Part Number 1: 1028-1063-1-ND; Manufacturer Part Number: RT9164A-33GG; RoHS: Yes; Category: Voltage Regulators - Linear; Stock 1: 856; Pricing 1: 1=0,97000, 10=0,85400, 25=0,80160, 100=0,65440, 250=0,60780, 500=0,51728, 1000=0,41382 (USD); Mount: Surface Mount; Case/Package: SOT-223; Number of Pins: 3; Min Operating Temperature: -40°C; Max Operating Temperature: 125°C; Packaging: Cut Tape; Nominal Output Voltage: 3.3V; Output Current: 1A; Output Voltage: 3.3V; Min Current Limit: 1A; Series: -; REACH SVHC: Unknown; Lead Free: Lead Free; RoHS Compliant: Yes; ComponentLink1URL: https://datasheet.ciiva.com/22749/1720531-22749488.pdf?src-supplier=Element14; ComponentLink1Description: https://datasheet.ciiva.com/22749/1720531-22749488.pdf?src-supplier=Element14; ComponentLink2URL: https://datasheet.ciiva.com/2053/3d3futf-83fb3frfm5mty0qs0xns5wzgy3d3f3d-2053536.pdf?src-supplier=Digi-Key; ComponentLink2Description: https://datasheet.ciiva.com/2053/3d3futf-83fb3frfm5mty0qs0xns5wzgy3d3f3d-2053536.pdf?src-supplier=Digi-Key
footprint SOT223-4N (SOT223, 4-Leads, Body 6.5x3.5mm, Pitch 2.3mm, Lead Span 7mm, IPC Medium Density)
pins: 1 GND (power), 2 OUT (power), 3 IN (in), 4 EP (power)

## RV2C010UNT2L
designator Q?
N-Channel MOSFET, 20V, 1A, 470mOhm, 400mW; Manufacturer: Rohm Semiconductor; Part number IPS: 00000009976; Part number Norautron: 26320026; Part number NEMS: 101300132; Note: N.A.; Artikkelnr Noca: 35010020; Pad Count: 3; Component Status: Active; Part Number: RV2C010UNT2L; Manufacturer Part Number: RV2C010UNT2L; ComponentLink1URL: N.A.; ComponentLink1Description: Datasheet; ComponentLink2URL: N.A.; ComponentLink2Description: Supplier link; HelpURL: http://rohmfs.rohm.com/en/products/databook/datasheet/discrete/transistor/mosfet/rv2c010unt2l-e.pdf; Footprint Doc: DFN-3; LatestRevisionDate: 2016-08-09; Published: 2016-08-09; Value: RV2C010UNT2L; Supplier 1: Digi-Key; Supplier Part Number 1: RV2C010UNT2LCT-ND; Supplier 2: Mouser; Supplier Part Number 2: 755-RV2C010UNT2L; PartId: 101300132; Component Class: Semiconductors; Author: rsk
footprint DFN65P100X40-3L
pins: 1 G, 2 S, 3 D

## SAFFB2G45MA0F0A
designator F?
2.4 GHz BPF; Manufacturer: Murata; Part number IPS: 00000001784, 80000001660; Part number NEMS: 100800023; Artikkelnr Noca: N.A.; Pad Count: 5; Component Status: Active; Part Number: SAFFB2G45MA0F0A; Manufacturer Part Number: SAFFB2G45MA0F0A; ComponentLink1URL: N.A.; ComponentLink1Description: Datasheet; ComponentLink2URL: N.A.; ComponentLink2Description: Supplier link; HelpURL: N.A.; Footprint Doc: 1109; LatestRevisionDate: 2018-05-15; Published: 2018-05-15; Value: SAFFB2G45MA0F0A; Supplier 1: N.A.; Supplier Part Number 1: N.A.; Supplier 2: N.A.; Supplier Part Number 2: N.A.; Author: rsk; Component Class: Filters; Note: N.A.; PartId: 100800023; Part number Norautron: N.A.
footprint SAFFB2G45MA0F0A
pins: 1 IN (io), 2 GND (power), 3 GND (power), 4 OUT (io), 5 GND (power)

## SAT043AT40D08BH3671T51ZN
designator U?
LCD,  TFT, 4.3 inch, 480x272 pixels with LED Backlight and Capacitive touch panel, high luminance with 0.5mm pitch flat cable; Manufacturer_1: 62684-401100ALF; Part_Type: Connector; Part_Preference: Recommended; Component_Country_Of_Origin: Unknown; ShowFields: YES; Value: SAT043AT40D08BH3671T51ZN; Manufacturer_Part_Number_1: 62684-401100ALF; Manufacturer_Part_Number_2: 62684-401100ALF; Manufacturer_Part_Number_3: 62684-401100ALF; Order_code_Digikey: N/A; Order_code_Farnell: N/A; Order_code_RS: N/A; Status: Released; ComponentLink1URL: SAT043AT40D08BH3671T51ZN; Manufacturer_Part_Number: 62684-401100ALF
footprint 62684-401100ALF for LCD_SANTOZ
pins: 1 VBL-, 2 VBL+, 3 GND, 4 VDD, 5 R0, 6 R1, 7 R2, 8 R3, 9 R4, 10 R5, 11 R6, 12 R7, 13 G0, 14 G1, 15 G2, 16 G3, 17 G4, 18 G5, 19 G6, 20 G7, 21 B0, 22 B1, 23 B2, 24 B3, 25 B4, 26 B5, 27 B6, 28 B7, 29 GND, 30 CLK, 31 NC, 32 HSYNC, 33 VSYNC, 34 DE, 35 NC, 36 GND, 37 XR, 38 YD, 39 XL, 40 YU

## SF72S006VBDR2500
designator J?, comment SF72S006VBxR2500
n 8 (6 + 2) Position Card Connector NANO SIM Surface Mount, Right Angle Gold; Part Number: SF72S006VBDR2500; Manufacturer: JAE Electronics; Part number NEMS: 100500780; Value: SF72S006VBDR2500; Note: N.A.; Pad Count: 8; Component Status: Active; Manufacturer Part Number: SF72S006VBDR2500; Footprint Doc: SF72S006VBDR2500; LatestRevisionDate: 2023-01-12; Published: 2023-01-12; Artikkelnr Noca: N.A.; Part number IPS: N.A.; ComponentLink1URL: https://www.jae.com/direct/topics/topics_file_download/topics_id=68892&ext_no=04&_lang=en; ComponentLink1Description: Datasheet; ComponentLink2URL: https://www.digikey.com/en/products/detail/jae-electronics/SF72S006VBDR2500/6834083; ComponentLink2Description: Supplier link; HelpURL: N.A.; Supplier 1: Digi-Key; Supplier Part Number 1: 670-2967-1-ND; Supplier 2: N.A.; Supplier Part Number 2: N.A.; Author: rubr; Component Class: Connectors; PartId: 100500780; Part number Norautron: N.A.; System: Connector
footprint SF72S006VBxR2500
pins: 0 GND hidden to GND, C1 VSIM, C2 SIMRST, C3 SIMCLK, C5 GND, C6 SIMVPP, C7 SIMDATA, CSW, DSW
text: (FRAME)

## SGM803-SX3NL/TR
designator U?, comment Manufacturer Part Number: SGM803-SXN3L/TR  (hidden comment: Active Low SOT-23 Monitors & Reset Circuits ROHS)
Order Code: LCSC: C99577; LCSC Manufacturer Part Number: SGM803-SXN3L/TR; LCSC Part Number: C99577
footprint SGMICRO_SOT23
pins: 1 GND, 2 RESET-N, 3 VIN

## SGM803-SX3NL/TR_1
designator U?, comment Manufacturer Part Number: SGM803-SXN3L/TR  (hidden comment: Active Low SOT-23 Monitors & Reset Circuits ROHS)
Order Code: LCSC: C99577; LCSC Manufacturer Part Number: SGM803-SXN3L/TR; LCSC Part Number: C99577
footprint SGMICRO_SOT23
pins: 1 GND, 2 RESET-N, 3 VIN

## SKY65943-11
designator U?
GNSS Low-Noise Amplifier Front-End Module with Integrated Pre-Filter and Post-Filter; Manufacturer: Skyworks; Part number IPS: 00000002997; Part number NEMS: 101900584; Note: N.A.; Pad Count: 10; Component Status: Active; Part Number: SKY65943-11; Manufacturer Part Number: SKY65943-11; Footprint Doc: MCM-10; Value: SKY65943-11; ComponentLink1URL: http://www.skyworksinc.com/uploads/documents/SKY65943_11_204404F.pdf; ComponentLink1Description: Datasheet; ComponentLink2URL: https://www.digikey.com/product-detail/en/skyworks-solutions-inc/SKY65943-11/863-2032-1-ND; ComponentLink2Description: Supplier link; HelpURL: http://www.skyworksinc.com/Product/3579/SKY65943-11; LatestRevisionDate: 2019-04-16; Published: 2019-04-16; Supplier 1: Digi-Key; Supplier Part Number 1: 863-2032-1-ND; Supplier 2: Mouser; Supplier Part Number 2: 873-SKY65943-11; Artikkelnr Noca: N.A.; PartId: 101900584; Component Class: Misc_ICs; Author: rsk; Part number Norautron: N.A.
footprint SKY65943-11
pins: 1 GND (power), 2 VEN (in), 3 VCC (power), 4 GND (power), 5 RF_IN (in), 6 GND (power), 7 FIL_OUT (out), 8 AMP_IN (in), 9 GND (power), 10 RF_OUT (out), 11 GND (power)

## SM03B-SRSS-TB
designator J?, comment HDR-3, 1mm
1.0mm pitch connector side entry SMD; Part Number: SM03B-SRSS-TB; Manufacturer: JST Sales America Inc.; Manufacturer Part Number: SM03B-SRSS-TB(LF)(SN); Part number IPS: 00000001785; Part number Norautron: 26032360; Part number NEMS: 100500605; Note: JST, Header; Artikkelnr Noca: N.A.; Pad Count: 3; Component Status: Active; Footprint Doc: SM03B-SRSS-TB; LatestRevisionDate: 2017-10-09; Published: 2017-10-09; Value: HDR-3, 1mm; ComponentLink1URL: N.A.; ComponentLink1Description: Datasheet; ComponentLink2URL: N.A.; ComponentLink2Description: Supplier link; HelpURL: http://www.jst-mfg.com/product/pdf/eng/eSH.pdf; Supplier 1: Cabcon; Supplier Part Number 1: SM03B-SRSS-TB(LF)(SN); Supplier 2: Digi-Key; Supplier Part Number 2: 455-1803-1-ND; Author: rsk; Component Class: Connectors; PartId: 100500605; System: Connector
footprint SM03B-SRSS-TB
pins: 1, 2, 3

## SM04B-SRSS-TB
designator P?
JST SR/SH 1.0mm 4-pin; Manufacturer: JST Sales America Inc.; Part number NEMS: 100500540; Note: N.A.; Pad Count: 4; Component Status: Active; System: Connector; Part Number: SM04B-SRSS-TB; Manufacturer Part Number: SM04B-SRSS-TB; ComponentLink1URL: N.A.; ComponentLink1Description: Datasheet; ComponentLink2URL: N.A.; ComponentLink2Description: Supplier link; HelpURL: http://www.jst-mfg.com/product/pdf/eng/eSH.pdf; Footprint Doc: JST SR/SH 1.0mm 4-pin; LatestRevisionDate: 2020-09-01; Published: 2015-11-16; Value: SM04B-SRSS-TB; Supplier 1: Cabcon; Supplier Part Number 1: SM04B-SRSS-TB; Supplier 2: Digi-Key; Supplier Part Number 2: 455-1804-1-ND; Artikkelnr Noca: N.A.; Part number IPS: N.A.; Component Class: Connectors; PartId: 100500540; Author: rsk; Part number Norautron: N.A.
footprint SM04B-SRSS-TB
pins: 1, 2, 3, 4
1 alternate drawing of the same symbol

## SM08B-SRSS-TB
designator J?
SH Series 8 Position 1 mm Pitch Surface Mount Side Entry Shrouded Header; MF: {'manufacturer': u'JST Sales America Inc.'}; MP: SM08B-SRSS-TB; Package: None; Price: None; Value: *; Availability: Unavailable
footprint JST_SM08B-SRSS-TB
pins: 1, 2, 3, 4, 5, 6, 7, 8

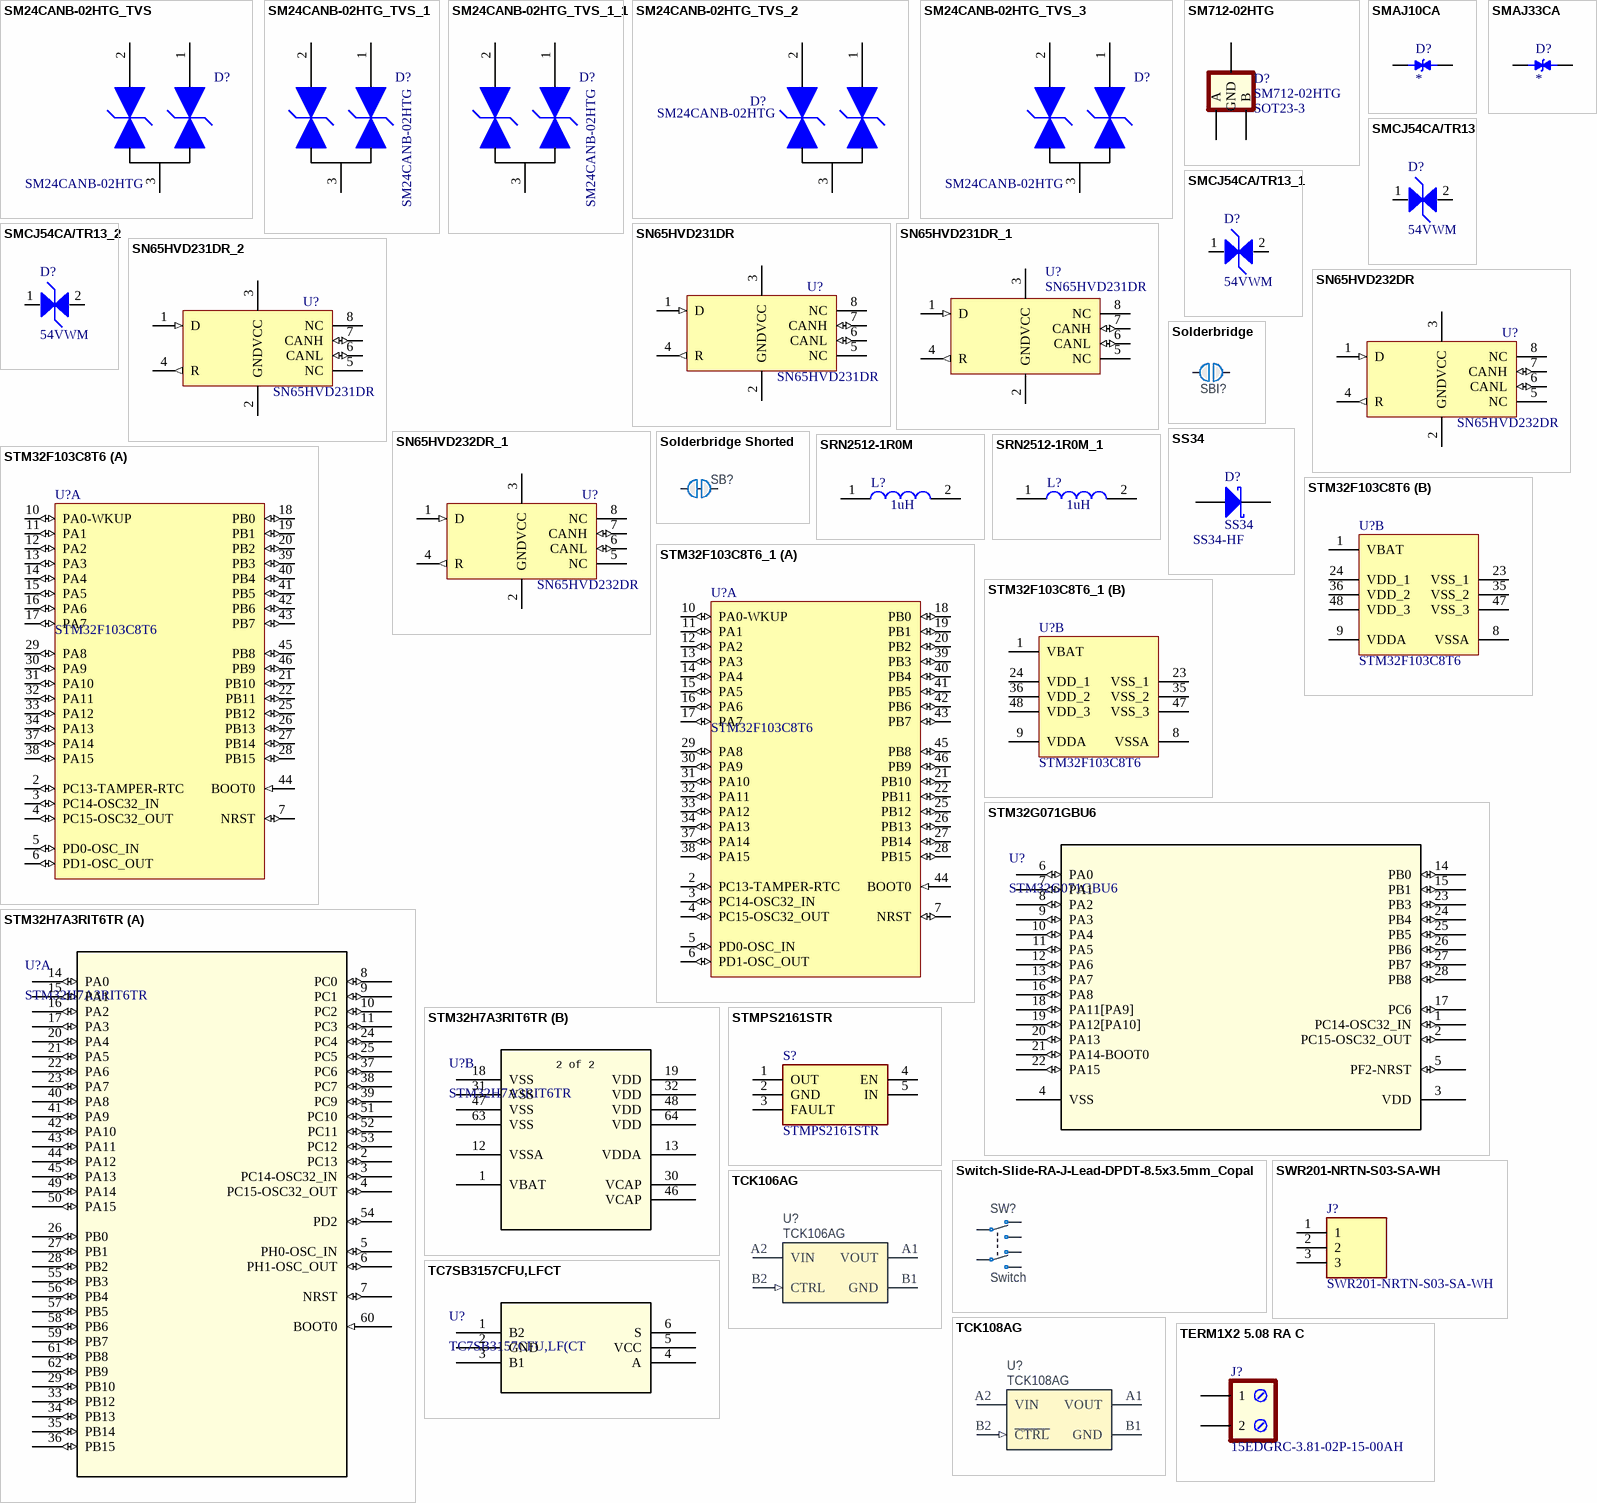
[diagram p27: symbols SM24CANB-02HTG_TVS to TERM1X2 5.08 RA C]

## SM24CANB-02HTG_TVS
designator D?, comment Manufacturer Part Number: SM24CANB-02HTG  (hidden comment: CAN)
TVS DIODE 24VWM 50VC SOT23-3; Order Code: DIGI : F6707CT-ND; Value: 2Ch; LCSC Manufacturer Part Number: SM24CANB-02HTG; LCSC Part Number: C151237
footprint SOT23_3-DIODE (TO-236-3, SC-59, SOT-23-3)
pins: 1, 2, 3

## SM24CANB-02HTG_TVS_1
designator D?, comment P/N: SM24CANB-02HTG  (hidden comment: CAN)
TVS DIODE 24VWM 50VC SOT23-3; Order Code: DIGI : F6707CT-ND; Value: 2Ch; LCSC Part Number: C151237
footprint SOT23_3-DIODE (TO-236-3, SC-59, SOT-23-3)
pins: 1, 2, 3

## SM24CANB-02HTG_TVS_1_1
designator D?, comment P/N: SM24CANB-02HTG  (hidden comment: CAN)
TVS DIODE 24VWM 50VC SOT23-3; Order Code: DIGI : F6707CT-ND; Value: 2Ch; LCSC Part Number: C151237
footprint SOT23_3-DIODE (TO-236-3, SC-59, SOT-23-3)
pins: 1, 2, 3

## SM24CANB-02HTG_TVS_2
designator D?, comment Manufacturer Part Number: SM24CANB-02HTG  (hidden comment: CAN)
TVS DIODE 24VWM 50VC SOT23-3; Order Code: DIGI : F6707CT-ND; Value: 2Ch; LCSC Manufacturer Part Number: SM24CANB-02HTG; LCSC Part Number: C151237
footprint SOT23_3-DIODE (TO-236-3, SC-59, SOT-23-3)
pins: 1, 2, 3

## SM24CANB-02HTG_TVS_3
designator D?, comment Manufacturer Part Number: SM24CANB-02HTG  (hidden comment: CAN)
TVS DIODE 24VWM 50VC SOT23-3; Order Code: DIGI : F6707CT-ND; Value: 2Ch; LCSC Manufacturer Part Number: SM24CANB-02HTG; LCSC Part Number: C151237
footprint SOT23_3-DIODE (TO-236-3, SC-59, SOT-23-3)
pins: 1, 2, 3

## SM712-02HTG
designator D?  Package Reference: SOT23-3
TVS DIODE 12VWM 31VC SOT23; Manufacturer: BOURNS; Manufacturer Part Name: CDSOT23-SM712; Family: DIODE; Supplier: OZDISAN; Supplier No: CDSOT23-SM712; Value: SM712-02HTG
footprint SOT23-3 (SOT23, 3-Leads, Body 2.9x1.3mm, Pitch 0.95mm, Lead Span 2.5mm, IPC Medium Density)
pins: 1 A, 2 B, 3 GND

## SMAJ10CA
designator D?
TVS DIODE 10VWM; MF: SMC Diode Solutions; MP: SMAJ10CA; SnapEDA_Link: https://www.snapeda.com/parts/SMAJ33CA/SMC+Diode+Solutions/view-part/?ref=snap; Package: None; Value: *; Check_prices: https://www.snapeda.com/parts/SMAJ33CA/SMC+Diode+Solutions/view-part/?ref=eda; Manufacturer Part Number: *
footprint DIOM4325X250N
pins: 1, 2

## SMAJ33CA
designator D?
TVS DIODE 33VWM 53.3VC SMA; MF: SMC Diode Solutions; MP: SMAJ33CA; SnapEDA_Link: https://www.snapeda.com/parts/SMAJ33CA/SMC+Diode+Solutions/view-part/?ref=snap; Package: None; Value: *; Check_prices: https://www.snapeda.com/parts/SMAJ33CA/SMC+Diode+Solutions/view-part/?ref=eda; Manufacturer Part Number: *
footprint DIOM4325X250N
pins: 1, 2

## SMCJ54CA/TR13
designator D?  value 54VWM  (hidden comment: SMCJ54CA/TR13)
87.1V 60V 54V Bi-Directional SMC(DO-214AB) TVS ROHS; LCSC Manufacturer Part Number: SMCJ54CA/TR13; LCSC Part Number: C310062
footprint DO214AB (DIODE DO214AB)
pins: 1, 2

## SMCJ54CA/TR13_1
designator D?, comment value 54VWM  (hidden comment: SMCJ54CA/TR13)
87.1V 60V 54V Bi-Directional SMC(DO-214AB) TVS ROHS; LCSC Manufacturer Part Number: SMCJ54CA/TR13; LCSC Part Number: C310062
footprint DO214AB (DIODE DO214AB)
pins: 1, 2

## SMCJ54CA/TR13_2
designator D?, comment value 54VWM  (hidden comment: SMCJ54CA/TR13)
87.1V 60V 54V Bi-Directional SMC(DO-214AB) TVS ROHS; LCSC Manufacturer Part Number: SMCJ54CA/TR13; LCSC Part Number: C310062
footprint DO214AB (DIODE DO214AB)
pins: 1, 2

## SN65HVD231DR
designator U?, comment P/N: SN65HVD231DR  (hidden comment: IC TRANSCEIVER HALF 1/1 8SOIC)
1/1 Transceiver Half CANbus 8-SOIC; Order Code: DIGI : 296-26343-2-ND; Value: CAN; LCSC Manufacturer Part Number: SN65HVD231DR; LCSC Part Number: C129257
footprint SOIC8 (8-SOIC (0.154", 3.90mm Width))
pins: 1 D (in), 2 GND, 3 VCC, 4 R (out), 5 NC, 6 CANL (io), 7 CANH (io), 8 NC

## SN65HVD231DR_1
designator U?, comment P/N: SN65HVD231DR  (hidden comment: IC TRANSCEIVER HALF 1/1 8SOIC)
1/1 Transceiver Half CANbus 8-SOIC; Order Code: DIGI : 296-26343-2-ND; Value: CAN; LCSC Manufacturer Part Number: SN65HVD231DR; LCSC Part Number: C129257
footprint SOIC8 (8-SOIC (0.154", 3.90mm Width))
pins: 1 D (in), 2 GND, 3 VCC, 4 R (out), 5 NC, 6 CANL (io), 7 CANH (io), 8 NC

## SN65HVD231DR_2
designator U?, comment P/N: SN65HVD231DR  (hidden comment: IC TRANSCEIVER HALF 1/1 8SOIC)
1/1 Transceiver Half CANbus 8-SOIC; Order Code: DIGI : 296-26343-2-ND; Value: CAN; LCSC Manufacturer Part Number: SN65HVD231DR; LCSC Part Number: C129257
footprint SOIC8 (8-SOIC (0.154", 3.90mm Width))
pins: 1 D (in), 2 GND, 3 VCC, 4 R (out), 5 NC, 6 CANL (io), 7 CANH (io), 8 NC

## SN65HVD232DR
designator U?
1Mbps Transceiver 3V~3.6V SOIC-8 CAN ICs ROHS; Manufacturer Part Number: SN65HVD232DR; LCSC Part Number: C30530
footprint SOIC8 (8-SOIC (0.154", 3.90mm Width))
pins: 1 D (in), 2 GND (power), 3 VCC (power), 4 R (out), 5 NC, 6 CANL (io), 7 CANH (io), 8 NC

## SN65HVD232DR_1
designator U?, comment SN65HVD232DR
1Mbps Transceiver 3V~3.6V SOIC-8 CAN ICs ROHS; Manufacturer Part Number: SN65HVD232DR; LCSC Part Number: C30530
footprint SOIC8 (8-SOIC (0.154", 3.90mm Width))
pins: 1 D (in), 2 GND (power), 3 VCC (power), 4 R (out), 5 NC, 6 CANL (io), 7 CANH (io), 8 NC

## Solderbridge
designator SBI?  (value not drawn)  (no BOM)
Manufacturer: N.A.; Part number NEMS: 100500458; Pad Count: 2; Component Status: Active; System: Connector; Part Number: Solderbridge; PartId: 100500458; Component Class: Connectors; Author: rsk; Manufacturer Part Number: N.A.; ComponentLink1URL: N.A.; ComponentLink1Description: Datasheet; ComponentLink2URL: N.A.; ComponentLink2Description: Supplier link; HelpURL: N.A.; Footprint Doc: Solderbridge; LatestRevisionDate: 2009-12-14; Published: 2009-12-14; Value: Solderbridge; Note: N.A.; Supplier 1: N.A.; Supplier Part Number 1: N.A.; Supplier 2: N.A.; Supplier Part Number 2: N.A.; Artikkelnr Noca: N.A.; Part number IPS: N.A.; Part number Norautron: N.A.
footprint Solderbridge
pins: 1 0, 2 1

## Solderbridge Shorted
designator SB?, comment Solderbridge  (value not drawn)  (net tie, no BOM)
Shorted Solderbridge; Part Number: Solderbridge Shorted; Manufacturer: N.A.; Part number NEMS: 100500459; Component Status: Active; Pad Count: 2; System: Connector; PartId: 100500459; Component Class: Connectors; Author: rsk; Manufacturer Part Number: N.A.; ComponentLink1URL: N.A.; ComponentLink1Description: Datasheet; ComponentLink2URL: N.A.; ComponentLink2Description: Supplier link; HelpURL: N.A.; LatestRevisionDate: 2012-08-07; Published: 2012-08-07; Footprint Doc: Solderbridge_Shorted; Value: Solderbridge; Note: N.A.; Supplier 1: N.A.; Supplier Part Number 1: N.A.; Supplier 2: N.A.; Supplier Part Number 2: N.A.; Artikkelnr Noca: N.A.; Part number IPS: N.A.; Part number Norautron: N.A.
footprint Solderbridge_Shorted
pins: 1 0, 2 1

## SRN2512-1R0M
designator L?, comment value 1uH  (hidden comment: FIXED IND 1UH 3.5A 57 MOHM SMD)
1 µH Semi-Shielded Drum Core, Wirewound Inductor 3.5 A 57mOhm Max 1008 (2520 Metric); Manufacturer Part Number: SRN2512-1R0M; Order Code: Digi: SRN2512-1R0MTR-ND; LCSC Manufacturer Part Number: SRN2512-1R0M; LCSC Part Number: C2041561
footprint SRN25121R0M
pins: 1, 2

## SRN2512-1R0M_1
designator L?, comment value 1uH  (hidden comment: FIXED IND 1UH 3.5A 57 MOHM SMD)
1 µH Semi-Shielded Drum Core, Wirewound Inductor 3.5 A 57mOhm Max 1008 (2520 Metric); Manufacturer Part Number: SRN2512-1R0M; Order Code: Digi: SRN2512-1R0MTR-ND; LCSC Manufacturer Part Number: SRN2512-1R0M; LCSC Part Number: C2041561
footprint SRN25121R0M
pins: 1, 2

## SS34
designator D?  Manufacturer Part Number: SS34-HF
DIODE SCHOTTKY 40V 3A DO214AC
footprint DO214AC-SMA
pins: A, C